# Altium schematic symbol library DMP31D0U.Schlib: 1 symbol
Pins are listed as number, name and electrical type; pins without a type are passive.

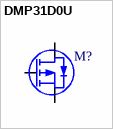
[diagram p0: symbol DMP31D0U]

## DMP31D0U
designator M?
30V 530mA P-Channel
pins: 1 G, 2 S, 3 D